# Altium schematic symbol library SCH - MCU - STM32 - ST MICROELECTRONICS STM32L081C(B-Z)TX LQFP48.SchLib: 1 symbol
Pins are listed as number, name and electrical type; pins without a type are passive.

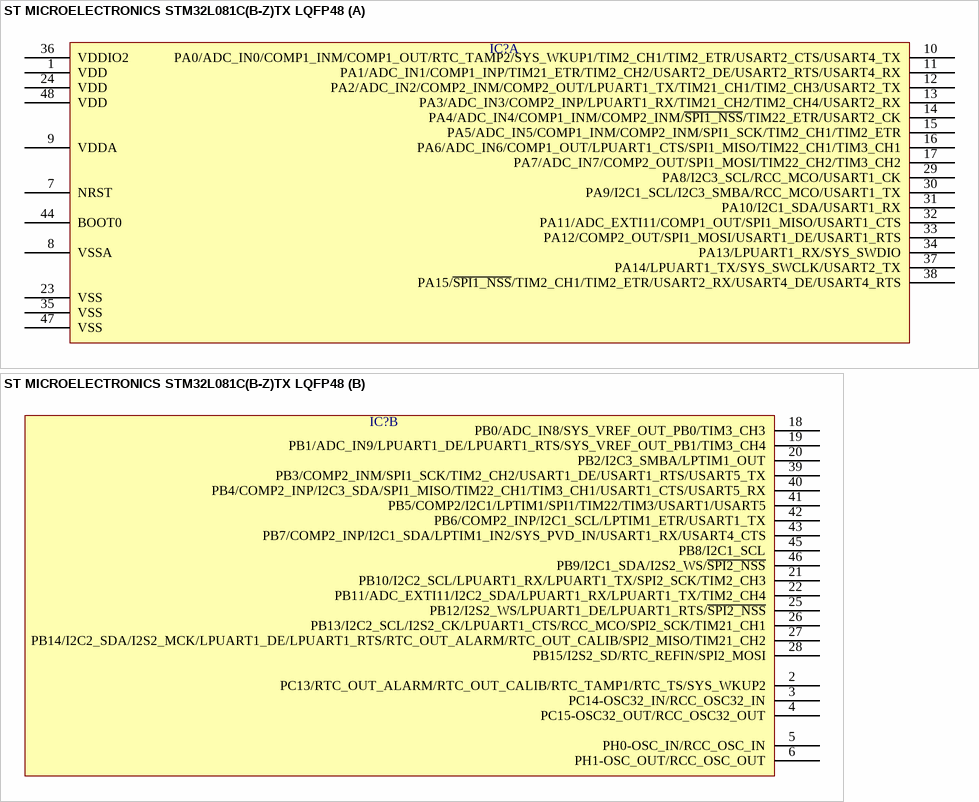
[diagram p0: symbol ST MICROELECTRONICS STM32L081C(B-Z)TX LQFP48]

## ST MICROELECTRONICS STM32L081C(B-Z)TX LQFP48
designator IC?  (value not drawn)
part A pins: 1 VDD, 7 NRST, 8 VSSA, 9 VDDA, 10 PA0/ADC_IN0/COMP1_INM/COMP1_OUT/RTC_TAMP2/SYS_WKUP1/TIM2_CH1/TIM2_ETR/USART2_CTS/USART4_TX, 11 PA1/ADC_IN1/COMP1_INP/TIM21_ETR/TIM2_CH2/USART2_DE/USART2_RTS/USART4_RX, 12 PA2/ADC_IN2/COMP2_INM/COMP2_OUT/LPUART1_TX/TIM21_CH1/TIM2_CH3/USART2_TX, 13 PA3/ADC_IN3/COMP2_INP/LPUART1_RX/TIM21_CH2/TIM2_CH4/USART2_RX, 14 PA4/ADC_IN4/COMP1_INM/COMP2_INM/~{SPI1_NSS}/TIM22_ETR/USART2_CK, 15 PA5/ADC_IN5/COMP1_INM/COMP2_INM/SPI1_SCK/TIM2_CH1/TIM2_ETR, 16 PA6/ADC_IN6/COMP1_OUT/LPUART1_CTS/SPI1_MISO/TIM22_CH1/TIM3_CH1, 17 PA7/ADC_IN7/COMP2_OUT/SPI1_MOSI/TIM22_CH2/TIM3_CH2, 23 VSS, 24 VDD, 29 PA8/I2C3_SCL/RCC_MCO/USART1_CK, 30 PA9/I2C1_SCL/I2C3_SMBA/RCC_MCO/USART1_TX, 31 PA10/I2C1_SDA/USART1_RX, 32 PA11/ADC_EXTI11/COMP1_OUT/SPI1_MISO/USART1_CTS, 33 PA12/COMP2_OUT/SPI1_MOSI/USART1_DE/USART1_RTS, 34 PA13/LPUART1_RX/SYS_SWDIO, 35 VSS, 36 VDDIO2, 37 PA14/LPUART1_TX/SYS_SWCLK/USART2_TX, 38 PA15/~{SPI1_NSS}/TIM2_CH1/TIM2_ETR/USART2_RX/USART4_DE/USART4_RTS, 44 BOOT0, 47 VSS, 48 VDD
part B pins: 2 PC13/RTC_OUT_ALARM/RTC_OUT_CALIB/RTC_TAMP1/RTC_TS/SYS_WKUP2, 3 PC14-OSC32_IN/RCC_OSC32_IN, 4 PC15-OSC32_OUT/RCC_OSC32_OUT, 5 PH0-OSC_IN/RCC_OSC_IN, 6 PH1-OSC_OUT/RCC_OSC_OUT, 18 PB0/ADC_IN8/SYS_VREF_OUT_PB0/TIM3_CH3, 19 PB1/ADC_IN9/LPUART1_DE/LPUART1_RTS/SYS_VREF_OUT_PB1/TIM3_CH4, 20 PB2/I2C3_SMBA/LPTIM1_OUT, 21 PB10/I2C2_SCL/LPUART1_RX/LPUART1_TX/SPI2_SCK/TIM2_CH3, 22 PB11/ADC_EXTI11/I2C2_SDA/LPUART1_RX/LPUART1_TX/TIM2_CH4, 25 PB12/I2S2_WS/LPUART1_DE/LPUART1_RTS/~{SPI2_NSS}, 26 PB13/I2C2_SCL/I2S2_CK/LPUART1_CTS/RCC_MCO/SPI2_SCK/TIM21_CH1, 27 PB14/I2C2_SDA/I2S2_MCK/LPUART1_DE/LPUART1_RTS/RTC_OUT_ALARM/RTC_OUT_CALIB/SPI2_MISO/TIM21_CH2, 28 PB15/I2S2_SD/RTC_REFIN/SPI2_MOSI, 39 PB3/COMP2_INM/SPI1_SCK/TIM2_CH2/USART1_DE/USART1_RTS/USART5_TX, 40 PB4/COMP2_INP/I2C3_SDA/SPI1_MISO/TIM22_CH1/TIM3_CH1/USART1_CTS/USART5_RX, 41 PB5/COMP2/I2C1/LPTIM1/SPI1/TIM22/TIM3/USART1/USART5, 42 PB6/COMP2_INP/I2C1_SCL/LPTIM1_ETR/USART1_TX, 43 PB7/COMP2_INP/I2C1_SDA/LPTIM1_IN2/SYS_PVD_IN/USART1_RX/USART4_CTS, 45 PB8/I2C1_SCL, 46 PB9/I2C1_SDA/I2S2_WS/~{SPI2_NSS}